# Altium integrated library WL-SFTW SMD TOP LED full-color waterclear.IntLib: 1 symbol
Pins are listed as number, name and electrical type; pins without a type are passive.

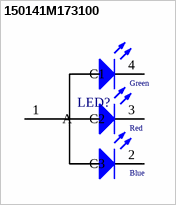
[diagram p0: symbol 150141M173100]

## 150141M173100
designator LED?
SMD Full-Color Top LED, WL-SFTW, Red & Green & Blue; PartNumber: 150141M173100; PackageReference: 3528_A; Color: Red & Green & Blue; ComponentLink1Description: Manufacturer URL; ComponentLink1URL: http://www.we-online.com; ComponentLink2Description: Datasheet; ComponentLink2URL: http://katalog.we-online.com/led/datasheet/150141M173100.pdf
footprint 3528_A (Chip LED, 4-Leads, Body 2.8x3.5mm (max), Pitch 1.42mm, IPC Medium Density)
pins: 1 A, 2 C3, 3 C2, 4 C1
1 alternate drawing of the same symbol
text: Green; Red; Blue